# EAGLE library part M22-6340342_6PF_2MM_SMD (library CYCFI_Con)
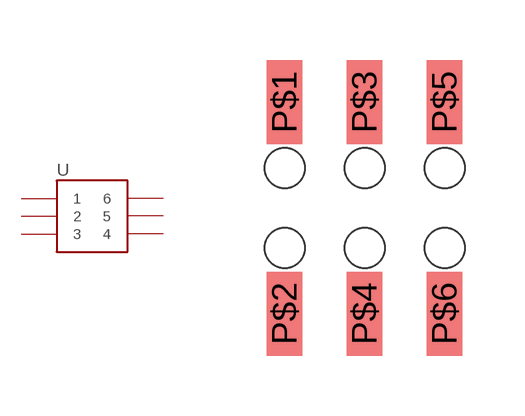
[diagram p26: symbol with the pads of 6P_2MM_FEMALE_T&T; footprint 6P_2MM_FEMALE_T&T]

Designator prefix -

## M22-6340342_6PF_2MM_SMD  [6P_2MM_FEMALE_T&T]
P$1  6
P$2  1
P$3  5
P$4  2
P$5  4
P$6  3

## Footprint 6P_2MM_FEMALE_T&T (pad centres in mm)
smd 0.89 x 2.1: P$1 -2,2.65; P$2 -2,-2.65; P$3 0,2.65; P$4 0,-2.65; P$5 2,2.65; P$6 2,-2.65
hole 1 at -2,1
hole 1 at 0,1
hole 1 at 2,1
hole 1 at 2,-1
hole 1 at 0,-1
hole 1 at -2,-1